# Altium schematic symbol library 1546216-3.SchLib: 1 symbol
Pins are listed as number, name and electrical type; pins without a type are passive.

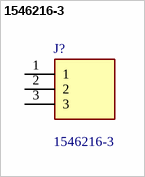
[diagram p0: symbol 1546216-3]

## 1546216-3
designator J?
Fixed Terminal Blocks TERMI-BLOK PCB MNT 90 3P.; Manufacturer_Name: TE Connectivity; Geometry.Height: 10.3mm; Manufacturer_Part_Number: 1546216-3; Mouser Part Number: 571-1546216-3; Mouser Price/Stock: https://www.mouser.co.uk/ProductDetail/TE-Connectivity/1546216-3?qs=Lxq28tKK6BO7Pspcq1MLxA%3D%3D; Arrow Part Number: 1546216-3; Arrow Price/Stock: https://www.arrow.com/en/products/1546216-3/te-connectivity; Mouser Testing Part Number: *; Mouser Testing Price/Stock: *; Datasheet Link: https://www.te.com/commerce/DocumentDelivery/DDEController?Action=srchrtrv&DocNm=1546216&DocType=Customer+Drawing&DocLang=English&DocFormat=pdf&PartCntxt=1546216-3
footprint 15462163
pins: 1, 2, 3